# EAGLE library part PIC16(L)F18325 (library GPS-power)
PIC16(L)F18325
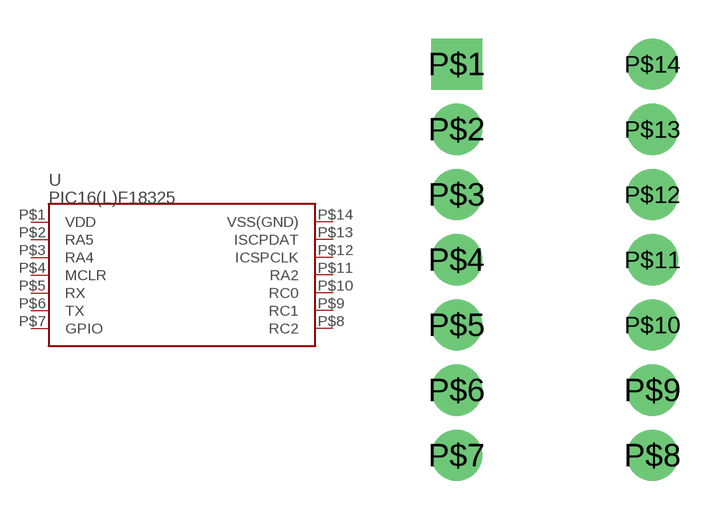
[diagram p1: symbol with the pads of DIP-S-14; footprint DIP-S-14]

Designator prefix -

## PIC16(L)F18325  [DIP-S-14]
P$1  VDD
P$2  RA5
P$3  RA4
P$4  MCLR
P$5  RX
P$6  TX
P$7  GPIO
P$8  RC2
P$9  RC1
P$10  RC0
P$11  RA2
P$12  ICSPCLK
P$13  ISCPDAT
P$14  VSS(GND)

## Footprint DIP-S-14 (pad centres in mm)
PIC16(L)F18325
drill 1.04 pad 2 square: P$1 0,15.24
drill 1.04 pad 2: P$2 0,12.7; P$3 0,10.16; P$4 0,7.62; P$5 0,5.08; P$6 0,2.54; P$7 0,0; P$8 7.62,0; P$9 7.62,2.54; P$10 7.62,5.08; P$11 7.62,7.62; P$12 7.62,10.16; P$13 7.62,12.7; P$14 7.62,15.24